# Altium footprint library TerminalBlock_Phoenix.PcbLib: 126 footprints (part 2 of 8)
Each footprint in its own frame and in the unit in brackets; x right, y up, seen from the top. Pads: shape width x height; smd on the part's side, far side on the other; paste and mask are expansions set on the pad; w line width, h text height; cw(c..) or ccw(c..) is an arc to the next point about the centre after c.
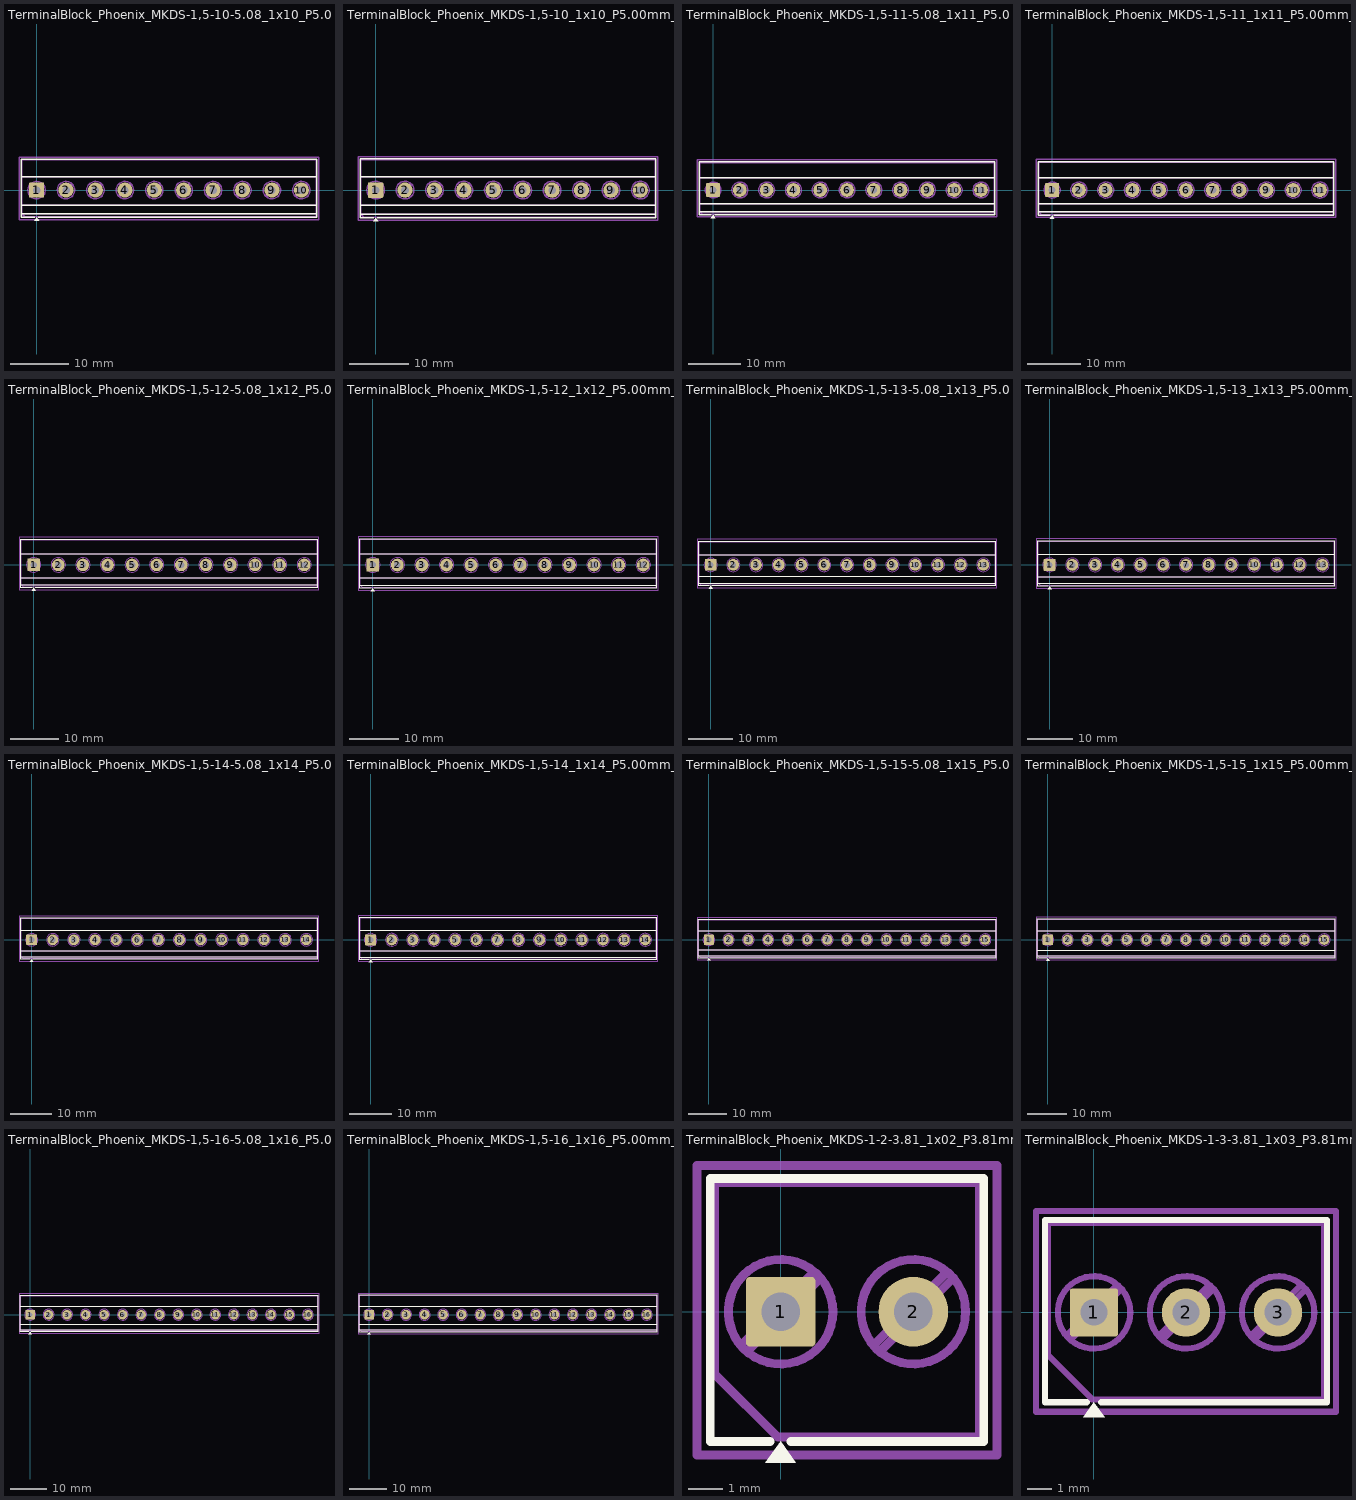
[diagram p1: the footprints below, top view; thin cyan lines are the x and y axes]

## TerminalBlock_Phoenix_MKDS-1,5-10-5.08_1x10_P5.08mm_Horizontal [mm]
pads (10):
  rrect10% 2.6x2.6 hole 1.3: 1(0,0)
  round 2.6 hole 1.3: 2(5.08,0) 3(10.16,0) 4(15.24,0) 5(20.32,0) 6(25.4,0) 7(30.48,0) 8(35.56,0) 9(40.64,0) 10(45.72,0)
F.SilkS:
  region: 0.44,-5.33 -0.44,-5.33 0,-4.72
  lines w0.254: -2.66,-4.1 48.38,-4.1 ; -2.66,-2.6 48.38,-2.6 ; -2.66,2.3 48.38,2.3 ; -0.3,-4.72 -2.66,-4.72 -2.66,5.32 48.38,5.32 48.38,-4.72 0.3,-4.72
F.Fab:
  circle w0.254: c0,0 r1.5
  circle w0.254: c5.08,0 r1.5
  circle w0.254: c10.16,0 r1.5
  circle w0.254: c15.24,0 r1.5
  circle w0.254: c20.32,0 r1.5
  circle w0.254: c25.4,0 r1.5
  circle w0.254: c30.48,0 r1.5
  circle w0.254: c35.56,0 r1.5
  circle w0.254: c40.64,0 r1.5
  circle w0.254: c45.72,0 r1.5
  lines w0.254: -2.54,-2.6 48.26,-2.6 ; -2.54,2.3 48.26,2.3 ; -1.138,-0.955 0.955,1.138 ; -0.955,-1.138 1.138,0.955 ; 3.942,-0.955 6.035,1.138 ; 4.125,-1.138 6.218,0.955 ; 9.022,-0.955 11.115,1.138 ; 9.205,-1.138 11.298,0.955 ; 14.102,-0.955 16.195,1.138 ; 14.285,-1.138 16.378,0.955 ; 19.182,-0.955 21.275,1.138 ; 19.365,-1.138 21.458,0.955 ; 24.262,-0.955 26.355,1.138 ; 24.445,-1.138 26.538,0.955 ; 29.342,-0.955 31.435,1.138 ; 29.525,-1.138 31.618,0.955 ; 34.422,-0.955 36.515,1.138 ; 34.605,-1.138 36.698,0.955 ; 39.502,-0.955 41.595,1.138 ; 39.685,-1.138 41.778,0.955 ; 44.582,-0.955 46.675,1.138 ; 44.765,-1.138 46.858,0.955 ; 48.26,-4.1 -2.54,-4.1 ; -2.54,-4.1 -2.54,5.2 48.26,5.2 48.26,-4.6 -2.04,-4.6 -2.54,-4.1
  text "'.Designator'" at 18.813,-4.04 h1
F.CrtYd:
  lines w0.254: -3.04,-5.1 -3.04,5.71 48.76,5.71 48.76,-5.1 -3.04,-5.1

## TerminalBlock_Phoenix_MKDS-1,5-10_1x10_P5.00mm_Horizontal [mm]
pads (10):
  rrect10% 2.6x2.6 hole 1.3: 1(0,0)
  round 2.6 hole 1.3: 2(5,0) 3(10,0) 4(15,0) 5(20,0) 6(25,0) 7(30,0) 8(35,0) 9(40,0) 10(45,0)
F.SilkS:
  region: 0.44,-5.33 -0.44,-5.33 0,-4.72
  lines w0.254: -2.62,-4.1 47.62,-4.1 ; -2.62,-2.6 47.62,-2.6 ; -2.62,2.3 47.62,2.3 ; -0.3,-4.72 -2.62,-4.72 -2.62,5.32 47.62,5.32 47.62,-4.72 0.3,-4.72
F.Fab:
  circle w0.254: c0,0 r1.5
  circle w0.254: c5,0 r1.5
  circle w0.254: c10,0 r1.5
  circle w0.254: c15,0 r1.5
  circle w0.254: c20,0 r1.5
  circle w0.254: c25,0 r1.5
  circle w0.254: c30,0 r1.5
  circle w0.254: c35,0 r1.5
  circle w0.254: c40,0 r1.5
  circle w0.254: c45,0 r1.5
  lines w0.254: -2.5,-2.6 47.5,-2.6 ; -2.5,2.3 47.5,2.3 ; -1.138,-0.955 0.955,1.138 ; -0.955,-1.138 1.138,0.955 ; 3.862,-0.955 5.955,1.138 ; 4.045,-1.138 6.138,0.955 ; 8.862,-0.955 10.955,1.138 ; 9.045,-1.138 11.138,0.955 ; 13.862,-0.955 15.955,1.138 ; 14.045,-1.138 16.138,0.955 ; 18.862,-0.955 20.955,1.138 ; 19.045,-1.138 21.138,0.955 ; 23.862,-0.955 25.955,1.138 ; 24.045,-1.138 26.138,0.955 ; 28.862,-0.955 30.955,1.138 ; 29.045,-1.138 31.138,0.955 ; 33.862,-0.955 35.955,1.138 ; 34.045,-1.138 36.138,0.955 ; 38.862,-0.955 40.955,1.138 ; 39.045,-1.138 41.138,0.955 ; 43.862,-0.955 45.955,1.138 ; 44.045,-1.138 46.138,0.955 ; 47.5,-4.1 -2.5,-4.1 ; -2.5,-4.1 -2.5,5.2 47.5,5.2 47.5,-4.6 -2,-4.6 -2.5,-4.1
  text "'.Designator'" at 18.453,-4.04 h1
F.CrtYd:
  lines w0.254: -3,-5.1 -3,5.71 48,5.71 48,-5.1 -3,-5.1

## TerminalBlock_Phoenix_MKDS-1,5-11-5.08_1x11_P5.08mm_Horizontal [mm]
pads (11):
  rrect10% 2.6x2.6 hole 1.3: 1(0,0)
  round 2.6 hole 1.3: 2(5.08,0) 3(10.16,0) 4(15.24,0) 5(20.32,0) 6(25.4,0) 7(30.48,0) 8(35.56,0) 9(40.64,0) 10(45.72,0) 11(50.8,0)
F.SilkS:
  region: 0.44,-5.33 -0.44,-5.33 0,-4.72
  lines w0.254: -2.66,-4.1 53.46,-4.1 ; -2.66,-2.6 53.46,-2.6 ; -2.66,2.3 53.46,2.3 ; -0.3,-4.72 -2.66,-4.72 -2.66,5.32 53.46,5.32 53.46,-4.72 0.3,-4.72
F.Fab:
  circle w0.254: c0,0 r1.5
  circle w0.254: c5.08,0 r1.5
  circle w0.254: c10.16,0 r1.5
  circle w0.254: c15.24,0 r1.5
  circle w0.254: c20.32,0 r1.5
  circle w0.254: c25.4,0 r1.5
  circle w0.254: c30.48,0 r1.5
  circle w0.254: c35.56,0 r1.5
  circle w0.254: c40.64,0 r1.5
  circle w0.254: c45.72,0 r1.5
  circle w0.254: c50.8,0 r1.5
  lines w0.254: -2.54,-2.6 53.34,-2.6 ; -2.54,2.3 53.34,2.3 ; -1.138,-0.955 0.955,1.138 ; -0.955,-1.138 1.138,0.955 ; 3.942,-0.955 6.035,1.138 ; 4.125,-1.138 6.218,0.955 ; 9.022,-0.955 11.115,1.138 ; 9.205,-1.138 11.298,0.955 ; 14.102,-0.955 16.195,1.138 ; 14.285,-1.138 16.378,0.955 ; 19.182,-0.955 21.275,1.138 ; 19.365,-1.138 21.458,0.955 ; 24.262,-0.955 26.355,1.138 ; 24.445,-1.138 26.538,0.955 ; 29.342,-0.955 31.435,1.138 ; 29.525,-1.138 31.618,0.955 ; 34.422,-0.955 36.515,1.138 ; 34.605,-1.138 36.698,0.955 ; 39.502,-0.955 41.595,1.138 ; 39.685,-1.138 41.778,0.955 ; 44.582,-0.955 46.675,1.138 ; 44.765,-1.138 46.858,0.955 ; 49.662,-0.955 51.755,1.138 ; 49.845,-1.138 51.938,0.955 ; 53.34,-4.1 -2.54,-4.1 ; -2.54,-4.1 -2.54,5.2 53.34,5.2 53.34,-4.6 -2.04,-4.6 -2.54,-4.1
  text "'.Designator'" at 21.353,-4.04 h1
F.CrtYd:
  lines w0.254: -3.04,-5.1 -3.04,5.71 53.84,5.71 53.84,-5.1 -3.04,-5.1

## TerminalBlock_Phoenix_MKDS-1,5-11_1x11_P5.00mm_Horizontal [mm]
pads (11):
  rrect10% 2.6x2.6 hole 1.3: 1(0,0)
  round 2.6 hole 1.3: 2(5,0) 3(10,0) 4(15,0) 5(20,0) 6(25,0) 7(30,0) 8(35,0) 9(40,0) 10(45,0) 11(50,0)
F.SilkS:
  region: 0.44,-5.33 -0.44,-5.33 0,-4.72
  lines w0.254: -2.62,-4.1 52.62,-4.1 ; -2.62,-2.6 52.62,-2.6 ; -2.62,2.3 52.62,2.3 ; -0.3,-4.72 -2.62,-4.72 -2.62,5.32 52.62,5.32 52.62,-4.72 0.3,-4.72
F.Fab:
  circle w0.254: c0,0 r1.5
  circle w0.254: c5,0 r1.5
  circle w0.254: c10,0 r1.5
  circle w0.254: c15,0 r1.5
  circle w0.254: c20,0 r1.5
  circle w0.254: c25,0 r1.5
  circle w0.254: c30,0 r1.5
  circle w0.254: c35,0 r1.5
  circle w0.254: c40,0 r1.5
  circle w0.254: c45,0 r1.5
  circle w0.254: c50,0 r1.5
  lines w0.254: -2.5,-2.6 52.5,-2.6 ; -2.5,2.3 52.5,2.3 ; -1.138,-0.955 0.955,1.138 ; -0.955,-1.138 1.138,0.955 ; 3.862,-0.955 5.955,1.138 ; 4.045,-1.138 6.138,0.955 ; 8.862,-0.955 10.955,1.138 ; 9.045,-1.138 11.138,0.955 ; 13.862,-0.955 15.955,1.138 ; 14.045,-1.138 16.138,0.955 ; 18.862,-0.955 20.955,1.138 ; 19.045,-1.138 21.138,0.955 ; 23.862,-0.955 25.955,1.138 ; 24.045,-1.138 26.138,0.955 ; 28.862,-0.955 30.955,1.138 ; 29.045,-1.138 31.138,0.955 ; 33.862,-0.955 35.955,1.138 ; 34.045,-1.138 36.138,0.955 ; 38.862,-0.955 40.955,1.138 ; 39.045,-1.138 41.138,0.955 ; 43.862,-0.955 45.955,1.138 ; 44.045,-1.138 46.138,0.955 ; 48.862,-0.955 50.955,1.138 ; 49.045,-1.138 51.138,0.955 ; 52.5,-4.1 -2.5,-4.1 ; -2.5,-4.1 -2.5,5.2 52.5,5.2 52.5,-4.6 -2,-4.6 -2.5,-4.1
  text "'.Designator'" at 20.953,-4.04 h1
F.CrtYd:
  lines w0.254: -3,-5.1 -3,5.71 53,5.71 53,-5.1 -3,-5.1

## TerminalBlock_Phoenix_MKDS-1,5-12-5.08_1x12_P5.08mm_Horizontal [mm]
pads (12):
  rrect10% 2.6x2.6 hole 1.3: 1(0,0)
  round 2.6 hole 1.3: 2(5.08,0) 3(10.16,0) 4(15.24,0) 5(20.32,0) 6(25.4,0) 7(30.48,0) 8(35.56,0) 9(40.64,0) 10(45.72,0) 11(50.8,0) 12(55.88,0)
F.SilkS:
  region: 0.44,-5.33 -0.44,-5.33 0,-4.72
  lines w0.254: -2.66,-4.1 58.54,-4.1 ; -2.66,-2.6 58.54,-2.6 ; -2.66,2.3 58.54,2.3 ; -0.3,-4.72 -2.66,-4.72 -2.66,5.32 58.54,5.32 58.54,-4.72 0.3,-4.72
F.Fab:
  circle w0.254: c0,0 r1.5
  circle w0.254: c5.08,0 r1.5
  circle w0.254: c10.16,0 r1.5
  circle w0.254: c15.24,0 r1.5
  circle w0.254: c20.32,0 r1.5
  circle w0.254: c25.4,0 r1.5
  circle w0.254: c30.48,0 r1.5
  circle w0.254: c35.56,0 r1.5
  circle w0.254: c40.64,0 r1.5
  circle w0.254: c45.72,0 r1.5
  circle w0.254: c50.8,0 r1.5
  circle w0.254: c55.88,0 r1.5
  lines w0.254: -2.54,-2.6 58.42,-2.6 ; -2.54,2.3 58.42,2.3 ; -1.138,-0.955 0.955,1.138 ; -0.955,-1.138 1.138,0.955 ; 3.942,-0.955 6.035,1.138 ; 4.125,-1.138 6.218,0.955 ; 9.022,-0.955 11.115,1.138 ; 9.205,-1.138 11.298,0.955 ; 14.102,-0.955 16.195,1.138 ; 14.285,-1.138 16.378,0.955 ; 19.182,-0.955 21.275,1.138 ; 19.365,-1.138 21.458,0.955 ; 24.262,-0.955 26.355,1.138 ; 24.445,-1.138 26.538,0.955 ; 29.342,-0.955 31.435,1.138 ; 29.525,-1.138 31.618,0.955 ; 34.422,-0.955 36.515,1.138 ; 34.605,-1.138 36.698,0.955 ; 39.502,-0.955 41.595,1.138 ; 39.685,-1.138 41.778,0.955 ; 44.582,-0.955 46.675,1.138 ; 44.765,-1.138 46.858,0.955 ; 49.662,-0.955 51.755,1.138 ; 49.845,-1.138 51.938,0.955 ; 54.742,-0.955 56.835,1.138 ; 54.925,-1.138 57.018,0.955 ; 58.42,-4.1 -2.54,-4.1 ; -2.54,-4.1 -2.54,5.2 58.42,5.2 58.42,-4.6 -2.04,-4.6 -2.54,-4.1
  text "'.Designator'" at 23.893,-4.04 h1
F.CrtYd:
  lines w0.254: -3.04,-5.1 -3.04,5.71 58.92,5.71 58.92,-5.1 -3.04,-5.1

## TerminalBlock_Phoenix_MKDS-1,5-12_1x12_P5.00mm_Horizontal [mm]
pads (12):
  rrect10% 2.6x2.6 hole 1.3: 1(0,0)
  round 2.6 hole 1.3: 2(5,0) 3(10,0) 4(15,0) 5(20,0) 6(25,0) 7(30,0) 8(35,0) 9(40,0) 10(45,0) 11(50,0) 12(55,0)
F.SilkS:
  region: 0.44,-5.33 -0.44,-5.33 0,-4.72
  lines w0.254: -2.62,-4.1 57.62,-4.1 ; -2.62,-2.6 57.62,-2.6 ; -2.62,2.3 57.62,2.3 ; -0.3,-4.72 -2.62,-4.72 -2.62,5.32 57.62,5.32 57.62,-4.72 0.3,-4.72
F.Fab:
  circle w0.254: c0,0 r1.5
  circle w0.254: c5,0 r1.5
  circle w0.254: c10,0 r1.5
  circle w0.254: c15,0 r1.5
  circle w0.254: c20,0 r1.5
  circle w0.254: c25,0 r1.5
  circle w0.254: c30,0 r1.5
  circle w0.254: c35,0 r1.5
  circle w0.254: c40,0 r1.5
  circle w0.254: c45,0 r1.5
  circle w0.254: c50,0 r1.5
  circle w0.254: c55,0 r1.5
  lines w0.254: -2.5,-2.6 57.5,-2.6 ; -2.5,2.3 57.5,2.3 ; -1.138,-0.955 0.955,1.138 ; -0.955,-1.138 1.138,0.955 ; 3.862,-0.955 5.955,1.138 ; 4.045,-1.138 6.138,0.955 ; 8.862,-0.955 10.955,1.138 ; 9.045,-1.138 11.138,0.955 ; 13.862,-0.955 15.955,1.138 ; 14.045,-1.138 16.138,0.955 ; 18.862,-0.955 20.955,1.138 ; 19.045,-1.138 21.138,0.955 ; 23.862,-0.955 25.955,1.138 ; 24.045,-1.138 26.138,0.955 ; 28.862,-0.955 30.955,1.138 ; 29.045,-1.138 31.138,0.955 ; 33.862,-0.955 35.955,1.138 ; 34.045,-1.138 36.138,0.955 ; 38.862,-0.955 40.955,1.138 ; 39.045,-1.138 41.138,0.955 ; 43.862,-0.955 45.955,1.138 ; 44.045,-1.138 46.138,0.955 ; 48.862,-0.955 50.955,1.138 ; 49.045,-1.138 51.138,0.955 ; 53.862,-0.955 55.955,1.138 ; 54.045,-1.138 56.138,0.955 ; 57.5,-4.1 -2.5,-4.1 ; -2.5,-4.1 -2.5,5.2 57.5,5.2 57.5,-4.6 -2,-4.6 -2.5,-4.1
  text "'.Designator'" at 23.453,-4.04 h1
F.CrtYd:
  lines w0.254: -3,-5.1 -3,5.71 58,5.71 58,-5.1 -3,-5.1

## TerminalBlock_Phoenix_MKDS-1,5-13-5.08_1x13_P5.08mm_Horizontal [mm]
pads (13):
  rrect10% 2.6x2.6 hole 1.3: 1(0,0)
  round 2.6 hole 1.3: 2(5.08,0) 3(10.16,0) 4(15.24,0) 5(20.32,0) 6(25.4,0) 7(30.48,0) 8(35.56,0) 9(40.64,0) 10(45.72,0) 11(50.8,0) 12(55.88,0) 13(60.96,0)
F.SilkS:
  region: 0.44,-5.33 -0.44,-5.33 0,-4.72
  lines w0.254: -2.66,-4.1 63.62,-4.1 ; -2.66,-2.6 63.62,-2.6 ; -2.66,2.3 63.62,2.3 ; -0.3,-4.72 -2.66,-4.72 -2.66,5.32 63.62,5.32 63.62,-4.72 0.3,-4.72
F.Fab:
  circle w0.254: c0,0 r1.5
  circle w0.254: c5.08,0 r1.5
  circle w0.254: c10.16,0 r1.5
  circle w0.254: c15.24,0 r1.5
  circle w0.254: c20.32,0 r1.5
  circle w0.254: c25.4,0 r1.5
  circle w0.254: c30.48,0 r1.5
  circle w0.254: c35.56,0 r1.5
  circle w0.254: c40.64,0 r1.5
  circle w0.254: c45.72,0 r1.5
  circle w0.254: c50.8,0 r1.5
  circle w0.254: c55.88,0 r1.5
  circle w0.254: c60.96,0 r1.5
  lines w0.254: -2.54,-2.6 63.5,-2.6 ; -2.54,2.3 63.5,2.3 ; -1.138,-0.955 0.955,1.138 ; -0.955,-1.138 1.138,0.955 ; 3.942,-0.955 6.035,1.138 ; 4.125,-1.138 6.218,0.955 ; 9.022,-0.955 11.115,1.138 ; 9.205,-1.138 11.298,0.955 ; 14.102,-0.955 16.195,1.138 ; 14.285,-1.138 16.378,0.955 ; 19.182,-0.955 21.275,1.138 ; 19.365,-1.138 21.458,0.955 ; 24.262,-0.955 26.355,1.138 ; 24.445,-1.138 26.538,0.955 ; 29.342,-0.955 31.435,1.138 ; 29.525,-1.138 31.618,0.955 ; 34.422,-0.955 36.515,1.138 ; 34.605,-1.138 36.698,0.955 ; 39.502,-0.955 41.595,1.138 ; 39.685,-1.138 41.778,0.955 ; 44.582,-0.955 46.675,1.138 ; 44.765,-1.138 46.858,0.955 ; 49.662,-0.955 51.755,1.138 ; 49.845,-1.138 51.938,0.955 ; 54.742,-0.955 56.835,1.138 ; 54.925,-1.138 57.018,0.955 ; 59.822,-0.955 61.915,1.138 ; 60.005,-1.138 62.098,0.955 ; 63.5,-4.1 -2.54,-4.1 ; -2.54,-4.1 -2.54,5.2 63.5,5.2 63.5,-4.6 -2.04,-4.6 -2.54,-4.1
  text "'.Designator'" at 26.433,-4.04 h1
F.CrtYd:
  lines w0.254: -3.04,-5.1 -3.04,5.71 64,5.71 64,-5.1 -3.04,-5.1

## TerminalBlock_Phoenix_MKDS-1,5-13_1x13_P5.00mm_Horizontal [mm]
pads (13):
  rrect10% 2.6x2.6 hole 1.3: 1(0,0)
  round 2.6 hole 1.3: 2(5,0) 3(10,0) 4(15,0) 5(20,0) 6(25,0) 7(30,0) 8(35,0) 9(40,0) 10(45,0) 11(50,0) 12(55,0) 13(60,0)
F.SilkS:
  region: 0.44,-5.33 -0.44,-5.33 0,-4.72
  lines w0.254: -2.62,-4.1 62.62,-4.1 ; -2.62,-2.6 62.62,-2.6 ; -2.62,2.3 62.62,2.3 ; -0.3,-4.72 -2.62,-4.72 -2.62,5.32 62.62,5.32 62.62,-4.72 0.3,-4.72
F.Fab:
  circle w0.254: c0,0 r1.5
  circle w0.254: c5,0 r1.5
  circle w0.254: c10,0 r1.5
  circle w0.254: c15,0 r1.5
  circle w0.254: c20,0 r1.5
  circle w0.254: c25,0 r1.5
  circle w0.254: c30,0 r1.5
  circle w0.254: c35,0 r1.5
  circle w0.254: c40,0 r1.5
  circle w0.254: c45,0 r1.5
  circle w0.254: c50,0 r1.5
  circle w0.254: c55,0 r1.5
  circle w0.254: c60,0 r1.5
  lines w0.254: -2.5,-2.6 62.5,-2.6 ; -2.5,2.3 62.5,2.3 ; -1.138,-0.955 0.955,1.138 ; -0.955,-1.138 1.138,0.955 ; 3.862,-0.955 5.955,1.138 ; 4.045,-1.138 6.138,0.955 ; 8.862,-0.955 10.955,1.138 ; 9.045,-1.138 11.138,0.955 ; 13.862,-0.955 15.955,1.138 ; 14.045,-1.138 16.138,0.955 ; 18.862,-0.955 20.955,1.138 ; 19.045,-1.138 21.138,0.955 ; 23.862,-0.955 25.955,1.138 ; 24.045,-1.138 26.138,0.955 ; 28.862,-0.955 30.955,1.138 ; 29.045,-1.138 31.138,0.955 ; 33.862,-0.955 35.955,1.138 ; 34.045,-1.138 36.138,0.955 ; 38.862,-0.955 40.955,1.138 ; 39.045,-1.138 41.138,0.955 ; 43.862,-0.955 45.955,1.138 ; 44.045,-1.138 46.138,0.955 ; 48.862,-0.955 50.955,1.138 ; 49.045,-1.138 51.138,0.955 ; 53.862,-0.955 55.955,1.138 ; 54.045,-1.138 56.138,0.955 ; 58.862,-0.955 60.955,1.138 ; 59.045,-1.138 61.138,0.955 ; 62.5,-4.1 -2.5,-4.1 ; -2.5,-4.1 -2.5,5.2 62.5,5.2 62.5,-4.6 -2,-4.6 -2.5,-4.1
  text "'.Designator'" at 25.953,-4.04 h1
F.CrtYd:
  lines w0.254: -3,-5.1 -3,5.71 63,5.71 63,-5.1 -3,-5.1

## TerminalBlock_Phoenix_MKDS-1,5-14-5.08_1x14_P5.08mm_Horizontal [mm]
pads (14):
  rrect10% 2.6x2.6 hole 1.3: 1(0,0)
  round 2.6 hole 1.3: 2(5.08,0) 3(10.16,0) 4(15.24,0) 5(20.32,0) 6(25.4,0) 7(30.48,0) 8(35.56,0) 9(40.64,0) 10(45.72,0) 11(50.8,0) 12(55.88,0) 13(60.96,0) 14(66.04,0)
F.SilkS:
  region: 0.44,-5.33 -0.44,-5.33 0,-4.72
  lines w0.254: -2.66,-4.1 68.7,-4.1 ; -2.66,-2.6 68.7,-2.6 ; -2.66,2.3 68.7,2.3 ; -0.3,-4.72 -2.66,-4.72 -2.66,5.32 68.7,5.32 68.7,-4.72 0.3,-4.72
F.Fab:
  circle w0.254: c0,0 r1.5
  circle w0.254: c5.08,0 r1.5
  circle w0.254: c10.16,0 r1.5
  circle w0.254: c15.24,0 r1.5
  circle w0.254: c20.32,0 r1.5
  circle w0.254: c25.4,0 r1.5
  circle w0.254: c30.48,0 r1.5
  circle w0.254: c35.56,0 r1.5
  circle w0.254: c40.64,0 r1.5
  circle w0.254: c45.72,0 r1.5
  circle w0.254: c50.8,0 r1.5
  circle w0.254: c55.88,0 r1.5
  circle w0.254: c60.96,0 r1.5
  circle w0.254: c66.04,0 r1.5
  lines w0.254: -2.54,-2.6 68.58,-2.6 ; -2.54,2.3 68.58,2.3 ; -1.138,-0.955 0.955,1.138 ; -0.955,-1.138 1.138,0.955 ; 3.942,-0.955 6.035,1.138 ; 4.125,-1.138 6.218,0.955 ; 9.022,-0.955 11.115,1.138 ; 9.205,-1.138 11.298,0.955 ; 14.102,-0.955 16.195,1.138 ; 14.285,-1.138 16.378,0.955 ; 19.182,-0.955 21.275,1.138 ; 19.365,-1.138 21.458,0.955 ; 24.262,-0.955 26.355,1.138 ; 24.445,-1.138 26.538,0.955 ; 29.342,-0.955 31.435,1.138 ; 29.525,-1.138 31.618,0.955 ; 34.422,-0.955 36.515,1.138 ; 34.605,-1.138 36.698,0.955 ; 39.502,-0.955 41.595,1.138 ; 39.685,-1.138 41.778,0.955 ; 44.582,-0.955 46.675,1.138 ; 44.765,-1.138 46.858,0.955 ; 49.662,-0.955 51.755,1.138 ; 49.845,-1.138 51.938,0.955 ; 54.742,-0.955 56.835,1.138 ; 54.925,-1.138 57.018,0.955 ; 59.822,-0.955 61.915,1.138 ; 60.005,-1.138 62.098,0.955 ; 64.902,-0.955 66.995,1.138 ; 65.085,-1.138 67.178,0.955 ; 68.58,-4.1 -2.54,-4.1 ; -2.54,-4.1 -2.54,5.2 68.58,5.2 68.58,-4.6 -2.04,-4.6 -2.54,-4.1
  text "'.Designator'" at 28.973,-4.04 h1
F.CrtYd:
  lines w0.254: -3.04,-5.1 -3.04,5.71 69.08,5.71 69.08,-5.1 -3.04,-5.1

## TerminalBlock_Phoenix_MKDS-1,5-14_1x14_P5.00mm_Horizontal [mm]
pads (14):
  rrect10% 2.6x2.6 hole 1.3: 1(0,0)
  round 2.6 hole 1.3: 2(5,0) 3(10,0) 4(15,0) 5(20,0) 6(25,0) 7(30,0) 8(35,0) 9(40,0) 10(45,0) 11(50,0) 12(55,0) 13(60,0) 14(65,0)
F.SilkS:
  region: 0.44,-5.33 -0.44,-5.33 0,-4.72
  lines w0.254: -2.62,-4.1 67.62,-4.1 ; -2.62,-2.6 67.62,-2.6 ; -2.62,2.3 67.62,2.3 ; -0.3,-4.72 -2.62,-4.72 -2.62,5.32 67.62,5.32 67.62,-4.72 0.3,-4.72
F.Fab:
  circle w0.254: c0,0 r1.5
  circle w0.254: c5,0 r1.5
  circle w0.254: c10,0 r1.5
  circle w0.254: c15,0 r1.5
  circle w0.254: c20,0 r1.5
  circle w0.254: c25,0 r1.5
  circle w0.254: c30,0 r1.5
  circle w0.254: c35,0 r1.5
  circle w0.254: c40,0 r1.5
  circle w0.254: c45,0 r1.5
  circle w0.254: c50,0 r1.5
  circle w0.254: c55,0 r1.5
  circle w0.254: c60,0 r1.5
  circle w0.254: c65,0 r1.5
  lines w0.254: -2.5,-2.6 67.5,-2.6 ; -2.5,2.3 67.5,2.3 ; -1.138,-0.955 0.955,1.138 ; -0.955,-1.138 1.138,0.955 ; 3.862,-0.955 5.955,1.138 ; 4.045,-1.138 6.138,0.955 ; 8.862,-0.955 10.955,1.138 ; 9.045,-1.138 11.138,0.955 ; 13.862,-0.955 15.955,1.138 ; 14.045,-1.138 16.138,0.955 ; 18.862,-0.955 20.955,1.138 ; 19.045,-1.138 21.138,0.955 ; 23.862,-0.955 25.955,1.138 ; 24.045,-1.138 26.138,0.955 ; 28.862,-0.955 30.955,1.138 ; 29.045,-1.138 31.138,0.955 ; 33.862,-0.955 35.955,1.138 ; 34.045,-1.138 36.138,0.955 ; 38.862,-0.955 40.955,1.138 ; 39.045,-1.138 41.138,0.955 ; 43.862,-0.955 45.955,1.138 ; 44.045,-1.138 46.138,0.955 ; 48.862,-0.955 50.955,1.138 ; 49.045,-1.138 51.138,0.955 ; 53.862,-0.955 55.955,1.138 ; 54.045,-1.138 56.138,0.955 ; 58.862,-0.955 60.955,1.138 ; 59.045,-1.138 61.138,0.955 ; 63.862,-0.955 65.955,1.138 ; 64.045,-1.138 66.138,0.955 ; 67.5,-4.1 -2.5,-4.1 ; -2.5,-4.1 -2.5,5.2 67.5,5.2 67.5,-4.6 -2,-4.6 -2.5,-4.1
  text "'.Designator'" at 28.453,-4.04 h1
F.CrtYd:
  lines w0.254: -3,-5.1 -3,5.71 68,5.71 68,-5.1 -3,-5.1

## TerminalBlock_Phoenix_MKDS-1,5-15-5.08_1x15_P5.08mm_Horizontal [mm]
pads (15):
  rrect10% 2.6x2.6 hole 1.3: 1(0,0)
  round 2.6 hole 1.3: 2(5.08,0) 3(10.16,0) 4(15.24,0) 5(20.32,0) 6(25.4,0) 7(30.48,0) 8(35.56,0) 9(40.64,0) 10(45.72,0) 11(50.8,0) 12(55.88,0) 13(60.96,0) 14(66.04,0) 15(71.12,0)
F.SilkS:
  region: 0.44,-5.33 -0.44,-5.33 0,-4.72
  lines w0.254: -2.66,-4.1 73.78,-4.1 ; -2.66,-2.6 73.78,-2.6 ; -2.66,2.3 73.78,2.3 ; -0.3,-4.72 -2.66,-4.72 -2.66,5.32 73.78,5.32 73.78,-4.72 0.3,-4.72
F.Fab:
  circle w0.254: c0,0 r1.5
  circle w0.254: c5.08,0 r1.5
  circle w0.254: c10.16,0 r1.5
  circle w0.254: c15.24,0 r1.5
  circle w0.254: c20.32,0 r1.5
  circle w0.254: c25.4,0 r1.5
  circle w0.254: c30.48,0 r1.5
  circle w0.254: c35.56,0 r1.5
  circle w0.254: c40.64,0 r1.5
  circle w0.254: c45.72,0 r1.5
  circle w0.254: c50.8,0 r1.5
  circle w0.254: c55.88,0 r1.5
  circle w0.254: c60.96,0 r1.5
  circle w0.254: c66.04,0 r1.5
  circle w0.254: c71.12,0 r1.5
  lines w0.254: -2.54,-2.6 73.66,-2.6 ; -2.54,2.3 73.66,2.3 ; -1.138,-0.955 0.955,1.138 ; -0.955,-1.138 1.138,0.955 ; 3.942,-0.955 6.035,1.138 ; 4.125,-1.138 6.218,0.955 ; 9.022,-0.955 11.115,1.138 ; 9.205,-1.138 11.298,0.955 ; 14.102,-0.955 16.195,1.138 ; 14.285,-1.138 16.378,0.955 ; 19.182,-0.955 21.275,1.138 ; 19.365,-1.138 21.458,0.955 ; 24.262,-0.955 26.355,1.138 ; 24.445,-1.138 26.538,0.955 ; 29.342,-0.955 31.435,1.138 ; 29.525,-1.138 31.618,0.955 ; 34.422,-0.955 36.515,1.138 ; 34.605,-1.138 36.698,0.955 ; 39.502,-0.955 41.595,1.138 ; 39.685,-1.138 41.778,0.955 ; 44.582,-0.955 46.675,1.138 ; 44.765,-1.138 46.858,0.955 ; 49.662,-0.955 51.755,1.138 ; 49.845,-1.138 51.938,0.955 ; 54.742,-0.955 56.835,1.138 ; 54.925,-1.138 57.018,0.955 ; 59.822,-0.955 61.915,1.138 ; 60.005,-1.138 62.098,0.955 ; 64.902,-0.955 66.995,1.138 ; 65.085,-1.138 67.178,0.955 ; 69.982,-0.955 72.075,1.138 ; 70.165,-1.138 72.258,0.955 ; 73.66,-4.1 -2.54,-4.1 ; -2.54,-4.1 -2.54,5.2 73.66,5.2 73.66,-4.6 -2.04,-4.6 -2.54,-4.1
  text "'.Designator'" at 31.513,-4.04 h1
F.CrtYd:
  lines w0.254: -3.04,-5.1 -3.04,5.71 74.16,5.71 74.16,-5.1 -3.04,-5.1

## TerminalBlock_Phoenix_MKDS-1,5-15_1x15_P5.00mm_Horizontal [mm]
pads (15):
  rrect10% 2.6x2.6 hole 1.3: 1(0,0)
  round 2.6 hole 1.3: 2(5,0) 3(10,0) 4(15,0) 5(20,0) 6(25,0) 7(30,0) 8(35,0) 9(40,0) 10(45,0) 11(50,0) 12(55,0) 13(60,0) 14(65,0) 15(70,0)
F.SilkS:
  region: 0.44,-5.33 -0.44,-5.33 0,-4.72
  lines w0.254: -2.62,-4.1 72.62,-4.1 ; -2.62,-2.6 72.62,-2.6 ; -2.62,2.3 72.62,2.3 ; -0.3,-4.72 -2.62,-4.72 -2.62,5.32 72.62,5.32 72.62,-4.72 0.3,-4.72
F.Fab:
  circle w0.254: c0,0 r1.5
  circle w0.254: c5,0 r1.5
  circle w0.254: c10,0 r1.5
  circle w0.254: c15,0 r1.5
  circle w0.254: c20,0 r1.5
  circle w0.254: c25,0 r1.5
  circle w0.254: c30,0 r1.5
  circle w0.254: c35,0 r1.5
  circle w0.254: c40,0 r1.5
  circle w0.254: c45,0 r1.5
  circle w0.254: c50,0 r1.5
  circle w0.254: c55,0 r1.5
  circle w0.254: c60,0 r1.5
  circle w0.254: c65,0 r1.5
  circle w0.254: c70,0 r1.5
  lines w0.254: -2.5,-2.6 72.5,-2.6 ; -2.5,2.3 72.5,2.3 ; -1.138,-0.955 0.955,1.138 ; -0.955,-1.138 1.138,0.955 ; 3.862,-0.955 5.955,1.138 ; 4.045,-1.138 6.138,0.955 ; 8.862,-0.955 10.955,1.138 ; 9.045,-1.138 11.138,0.955 ; 13.862,-0.955 15.955,1.138 ; 14.045,-1.138 16.138,0.955 ; 18.862,-0.955 20.955,1.138 ; 19.045,-1.138 21.138,0.955 ; 23.862,-0.955 25.955,1.138 ; 24.045,-1.138 26.138,0.955 ; 28.862,-0.955 30.955,1.138 ; 29.045,-1.138 31.138,0.955 ; 33.862,-0.955 35.955,1.138 ; 34.045,-1.138 36.138,0.955 ; 38.862,-0.955 40.955,1.138 ; 39.045,-1.138 41.138,0.955 ; 43.862,-0.955 45.955,1.138 ; 44.045,-1.138 46.138,0.955 ; 48.862,-0.955 50.955,1.138 ; 49.045,-1.138 51.138,0.955 ; 53.862,-0.955 55.955,1.138 ; 54.045,-1.138 56.138,0.955 ; 58.862,-0.955 60.955,1.138 ; 59.045,-1.138 61.138,0.955 ; 63.862,-0.955 65.955,1.138 ; 64.045,-1.138 66.138,0.955 ; 68.862,-0.955 70.955,1.138 ; 69.045,-1.138 71.138,0.955 ; 72.5,-4.1 -2.5,-4.1 ; -2.5,-4.1 -2.5,5.2 72.5,5.2 72.5,-4.6 -2,-4.6 -2.5,-4.1
  text "'.Designator'" at 30.953,-4.04 h1
F.CrtYd:
  lines w0.254: -3,-5.1 -3,5.71 73,5.71 73,-5.1 -3,-5.1

## TerminalBlock_Phoenix_MKDS-1,5-16-5.08_1x16_P5.08mm_Horizontal [mm]
pads (16):
  rrect10% 2.6x2.6 hole 1.3: 1(0,0)
  round 2.6 hole 1.3: 2(5.08,0) 3(10.16,0) 4(15.24,0) 5(20.32,0) 6(25.4,0) 7(30.48,0) 8(35.56,0) 9(40.64,0) 10(45.72,0) 11(50.8,0) 12(55.88,0) 13(60.96,0) 14(66.04,0) 15(71.12,0) 16(76.2,0)
F.SilkS:
  region: 0.44,-5.33 -0.44,-5.33 0,-4.72
  lines w0.254: -2.66,-4.1 78.86,-4.1 ; -2.66,-2.6 78.86,-2.6 ; -2.66,2.3 78.86,2.3 ; -0.3,-4.72 -2.66,-4.72 -2.66,5.32 78.86,5.32 78.86,-4.72 0.3,-4.72
F.Fab:
  circle w0.254: c0,0 r1.5
  circle w0.254: c5.08,0 r1.5
  circle w0.254: c10.16,0 r1.5
  circle w0.254: c15.24,0 r1.5
  circle w0.254: c20.32,0 r1.5
  circle w0.254: c25.4,0 r1.5
  circle w0.254: c30.48,0 r1.5
  circle w0.254: c35.56,0 r1.5
  circle w0.254: c40.64,0 r1.5
  circle w0.254: c45.72,0 r1.5
  circle w0.254: c50.8,0 r1.5
  circle w0.254: c55.88,0 r1.5
  circle w0.254: c60.96,0 r1.5
  circle w0.254: c66.04,0 r1.5
  circle w0.254: c71.12,0 r1.5
  circle w0.254: c76.2,0 r1.5
  lines w0.254: -2.54,-2.6 78.74,-2.6 ; -2.54,2.3 78.74,2.3 ; -1.138,-0.955 0.955,1.138 ; -0.955,-1.138 1.138,0.955 ; 3.942,-0.955 6.035,1.138 ; 4.125,-1.138 6.218,0.955 ; 9.022,-0.955 11.115,1.138 ; 9.205,-1.138 11.298,0.955 ; 14.102,-0.955 16.195,1.138 ; 14.285,-1.138 16.378,0.955 ; 19.182,-0.955 21.275,1.138 ; 19.365,-1.138 21.458,0.955 ; 24.262,-0.955 26.355,1.138 ; 24.445,-1.138 26.538,0.955 ; 29.342,-0.955 31.435,1.138 ; 29.525,-1.138 31.618,0.955 ; 34.422,-0.955 36.515,1.138 ; 34.605,-1.138 36.698,0.955 ; 39.502,-0.955 41.595,1.138 ; 39.685,-1.138 41.778,0.955 ; 44.582,-0.955 46.675,1.138 ; 44.765,-1.138 46.858,0.955 ; 49.662,-0.955 51.755,1.138 ; 49.845,-1.138 51.938,0.955 ; 54.742,-0.955 56.835,1.138 ; 54.925,-1.138 57.018,0.955 ; 59.822,-0.955 61.915,1.138 ; 60.005,-1.138 62.098,0.955 ; 64.902,-0.955 66.995,1.138 ; 65.085,-1.138 67.178,0.955 ; 69.982,-0.955 72.075,1.138 ; 70.165,-1.138 72.258,0.955 ; 75.062,-0.955 77.155,1.138 ; 75.245,-1.138 77.338,0.955 ; 78.74,-4.1 -2.54,-4.1 ; -2.54,-4.1 -2.54,5.2 78.74,5.2 78.74,-4.6 -2.04,-4.6 -2.54,-4.1
  text "'.Designator'" at 34.053,-4.04 h1
F.CrtYd:
  lines w0.254: -3.04,-5.1 -3.04,5.71 79.24,5.71 79.24,-5.1 -3.04,-5.1

## TerminalBlock_Phoenix_MKDS-1,5-16_1x16_P5.00mm_Horizontal [mm]
pads (16):
  rrect10% 2.6x2.6 hole 1.3: 1(0,0)
  round 2.6 hole 1.3: 2(5,0) 3(10,0) 4(15,0) 5(20,0) 6(25,0) 7(30,0) 8(35,0) 9(40,0) 10(45,0) 11(50,0) 12(55,0) 13(60,0) 14(65,0) 15(70,0) 16(75,0)
F.SilkS:
  region: 0.44,-5.33 -0.44,-5.33 0,-4.72
  lines w0.254: -2.62,-4.1 77.62,-4.1 ; -2.62,-2.6 77.62,-2.6 ; -2.62,2.3 77.62,2.3 ; -0.3,-4.72 -2.62,-4.72 -2.62,5.32 77.62,5.32 77.62,-4.72 0.3,-4.72
F.Fab:
  circle w0.254: c0,0 r1.5
  circle w0.254: c5,0 r1.5
  circle w0.254: c10,0 r1.5
  circle w0.254: c15,0 r1.5
  circle w0.254: c20,0 r1.5
  circle w0.254: c25,0 r1.5
  circle w0.254: c30,0 r1.5
  circle w0.254: c35,0 r1.5
  circle w0.254: c40,0 r1.5
  circle w0.254: c45,0 r1.5
  circle w0.254: c50,0 r1.5
  circle w0.254: c55,0 r1.5
  circle w0.254: c60,0 r1.5
  circle w0.254: c65,0 r1.5
  circle w0.254: c70,0 r1.5
  circle w0.254: c75,0 r1.5
  lines w0.254: -2.5,-2.6 77.5,-2.6 ; -2.5,2.3 77.5,2.3 ; -1.138,-0.955 0.955,1.138 ; -0.955,-1.138 1.138,0.955 ; 3.862,-0.955 5.955,1.138 ; 4.045,-1.138 6.138,0.955 ; 8.862,-0.955 10.955,1.138 ; 9.045,-1.138 11.138,0.955 ; 13.862,-0.955 15.955,1.138 ; 14.045,-1.138 16.138,0.955 ; 18.862,-0.955 20.955,1.138 ; 19.045,-1.138 21.138,0.955 ; 23.862,-0.955 25.955,1.138 ; 24.045,-1.138 26.138,0.955 ; 28.862,-0.955 30.955,1.138 ; 29.045,-1.138 31.138,0.955 ; 33.862,-0.955 35.955,1.138 ; 34.045,-1.138 36.138,0.955 ; 38.862,-0.955 40.955,1.138 ; 39.045,-1.138 41.138,0.955 ; 43.862,-0.955 45.955,1.138 ; 44.045,-1.138 46.138,0.955 ; 48.862,-0.955 50.955,1.138 ; 49.045,-1.138 51.138,0.955 ; 53.862,-0.955 55.955,1.138 ; 54.045,-1.138 56.138,0.955 ; 58.862,-0.955 60.955,1.138 ; 59.045,-1.138 61.138,0.955 ; 63.862,-0.955 65.955,1.138 ; 64.045,-1.138 66.138,0.955 ; 68.862,-0.955 70.955,1.138 ; 69.045,-1.138 71.138,0.955 ; 73.862,-0.955 75.955,1.138 ; 74.045,-1.138 76.138,0.955 ; 77.5,-4.1 -2.5,-4.1 ; -2.5,-4.1 -2.5,5.2 77.5,5.2 77.5,-4.6 -2,-4.6 -2.5,-4.1
  text "'.Designator'" at 33.453,-4.04 h1
F.CrtYd:
  lines w0.254: -3,-5.1 -3,5.71 78,5.71 78,-5.1 -3,-5.1

## TerminalBlock_Phoenix_MKDS-1-2-3.81_1x02_P3.81mm_Horizontal [mm]
pads (2):
  rrect12% 2x2 hole 1.1: 1(0,0)
  round 2 hole 1.1: 2(3.81,0)
F.SilkS:
  region: 0.44,-4.33 -0.44,-4.33 0,-3.72
  lines w0.254: -0.3,-3.72 -2.02,-3.72 -2.02,3.82 5.83,3.82 5.83,-3.72 0.3,-3.72
F.Fab:
  circle w0.254: c0,0 r1.5
  circle w0.254: c3.81,0 r1.5
  lines w0.254: -1.138,-0.955 0.955,1.138 ; -0.955,-1.138 1.138,0.955 ; 2.672,-0.955 4.765,1.138 ; 2.855,-1.138 4.948,0.955 ; -1.9,-1.775 -1.9,3.7 5.71,3.7 5.71,-3.6 -0.075,-3.6 -1.9,-1.775
  text "'.Designator'" at -2.142,-3.79 h1
F.CrtYd:
  lines w0.254: -2.4,-4.11 -2.4,4.2 6.21,4.2 6.21,-4.11 -2.4,-4.11

## TerminalBlock_Phoenix_MKDS-1-3-3.81_1x03_P3.81mm_Horizontal [mm]
pads (3):
  rrect12% 2x2 hole 1.1: 1(0,0)
  round 2 hole 1.1: 2(3.81,0) 3(7.62,0)
F.SilkS:
  region: 0.44,-4.33 -0.44,-4.33 0,-3.72
  lines w0.254: -0.3,-3.72 -2.02,-3.72 -2.02,3.82 9.64,3.82 9.64,-3.72 0.3,-3.72
F.Fab:
  circle w0.254: c0,0 r1.5
  circle w0.254: c3.81,0 r1.5
  circle w0.254: c7.62,0 r1.5
  lines w0.254: -1.138,-0.955 0.955,1.138 ; -0.955,-1.138 1.138,0.955 ; 2.672,-0.955 4.765,1.138 ; 2.855,-1.138 4.948,0.955 ; 6.482,-0.955 8.575,1.138 ; 6.665,-1.138 8.758,0.955 ; -1.9,-1.775 -1.9,3.7 9.52,3.7 9.52,-3.6 -0.075,-3.6 -1.9,-1.775
  text "'.Designator'" at -0.237,-3.79 h1
F.CrtYd:
  lines w0.254: -2.4,-4.11 -2.4,4.2 10.02,4.2 10.02,-4.11 -2.4,-4.11